# Altium integrated library Linear Technology Power Management Battery Management.IntLib: 626 symbols (part 19 of 56)
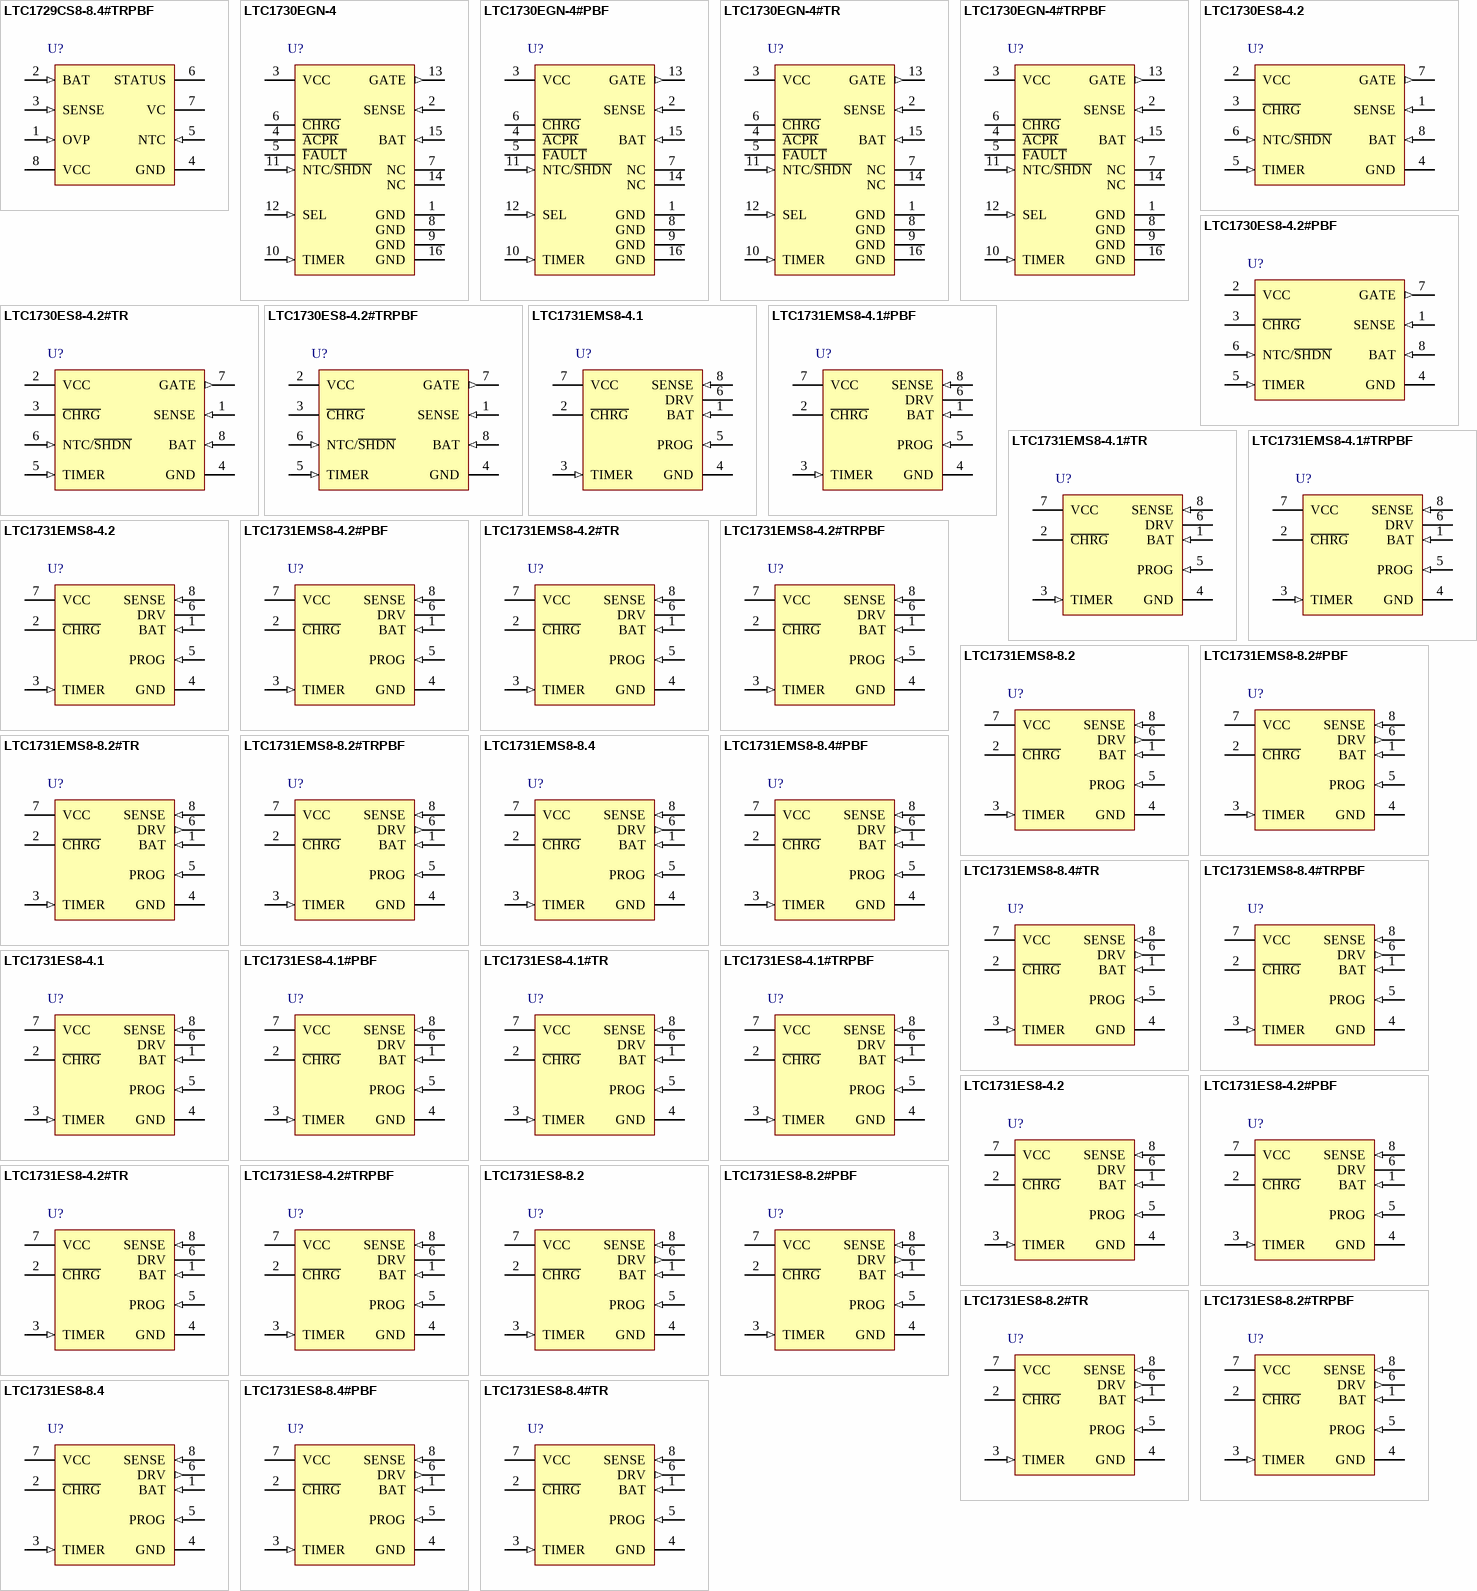
[diagram p40: symbols LTC1729CS8-8.4#TRPBF to LTC1731ES8-8.4#TR]

## LTC1731EMS8-4.2
designator U?
Linear Charger with AC Adapter Detection, 4.5 to 12 V Vin, 8-pin SOP (MS8-8), -40 to 85 degC; Manufacturer: Linear Technology; PartNumber: LTC1731EMS8-4.2; Battery Chemistry: Li-Ion, Li-Polymer; Charge Termination: On-board timer; Float Voltage: 4.2 V; Number of Cells: 1; Vin Max(V): 12; Vin Min(V): 4.5; PackageVersion: Rev. G, 03/2012; PackageReference: MS8-8; PackageDescription: 8-Pin Plastic MSOP, Body 3 x 3 mm, Pitch 0.65 mm; Supplier 1: Digi-Key; Supplier Part Number 1: LTC1731EMS8-4.2-ND; RoHS: FALSE; Type of Charger: Linear; Mounting Technology: Surface Mount; ComponentLink1Description: Manufacturer URL; ComponentLink1URL: http://www.linear.com/; ComponentLink2Description: Datasheet; ComponentLink2URL: http://cds.linear.com/docs/en/datasheet/1731f.pdf; ComponentLink3Description: Package Specification; ComponentLink3URL: http://cds.linear.com/docs/en/packaging/05081660_G_MS8.pdf
footprint LT-MS8-8_N (SOP, 8-Leads, Body 3.1x3.1mm, Pitch 0.65mm, IPC Medium Density)
footprint LT-MS8-8_L (SOP, 8-Leads, Body 3.1x3.1mm, Pitch 0.65mm, IPC High Density)
footprint LT-MS8-8_M (SOP, 8-Leads, Body 3.1x3.1mm, Pitch 0.65mm, IPC Low Density)
pins: 1 BAT (in) "Battery Sense Input. A bypass capacitor of at least 10uF is required to keep the loop stable when the battery is not connected. A precision internal resistor divider sets the final float potential on this pin. The resistor (See Datasheet)", 2 ~{CHRG} (hiz) "Open-Drain Charge Status Output. When the battery is being charged, the C\H\R\G\ pin is pulled low by an internal N-channel MOSFET. When the charge current drops to 10% of the full-scale current for at least 0.32 seconds, (See Datasheet)", 3 TIMER (in) "Timer Capacitor and Constant-Voltage Mode Disable Input Pin. The timer period is set by placing a capacitor, CTIMER, to GND. The timer period is tTIMER =(CTIMER x 3 hours)/(0.1uF). When the TIMER pin is connected to VCC, the (See Datasheet)", 4 GND (power) "Ground Connection", 5 PROG (in) "Charge Current Program and Shutdown Input Pin. The charge current is programmed by connecting a resistor, RPROG to ground. The charge current is IBAT = (VPROG x 800ohm)/(RPROG x RSENSE). The IC can be forced into shutdown by (See Datasheet)", 6 DRV (hiz) "Drive Output Pin for the P-Channel MOSFET or PNP Transistor. The impedance is high at this pin, therefore, a high beta PNP pass transistor should be used. The DRV pin is internally clamped to 6.5V below VCC.", 7 VCC (power) "Positive Input Supply Voltage. When VBAT is within 54mV of VCC, the LTC1731 is forced into sleep mode, dropping ICC to 7uA. VCC ranges from 4.5V to 12V. Bypass this pin with a 1uF capacitor.", 8 SENSE (in) "Current Sense Input. A sense resistor, RSENSE, must be connected from VCC to the SENSE pin. This resistor is chosen using the following equation: RSENSE = (VPROG x 800ohm)/(RPROG x IBAT)"

## LTC1731EMS8-4.2#PBF
designator U?
Linear Charger with AC Adapter Detection, 4.5 to 12 V Vin, 8-pin SOP (MS8-8), -40 to 85 degC, Pb-Free; Manufacturer: Linear Technology; PartNumber: LTC1731EMS8-4.2#PBF; Battery Chemistry: Li-Ion, Li-Polymer; Charge Termination: On-board timer; Float Voltage: 4.2 V; Number of Cells: 1; Vin Max(V): 12; Vin Min(V): 4.5; PackageVersion: Rev. G, 03/2012; PackageReference: MS8-8; PackageDescription: 8-Pin Plastic MSOP, Body 3 x 3 mm, Pitch 0.65 mm; Supplier 1: Digi-Key; Supplier Part Number 1: LTC1731EMS8-4.2#PBF-ND; Supplier 2: Farnell; Supplier Part Number 2: 1648011; RoHS: TRUE; Type of Charger: Linear; Mounting Technology: Surface Mount; ComponentLink1Description: Manufacturer URL; ComponentLink1URL: http://www.linear.com/; ComponentLink2Description: Datasheet; ComponentLink2URL: http://cds.linear.com/docs/en/datasheet/1731f.pdf; ComponentLink3Description: Package Specification; ComponentLink3URL: http://cds.linear.com/docs/en/packaging/05081660_G_MS8.pdf
footprint LT-MS8-8_N (SOP, 8-Leads, Body 3.1x3.1mm, Pitch 0.65mm, IPC Medium Density)
footprint LT-MS8-8_L (SOP, 8-Leads, Body 3.1x3.1mm, Pitch 0.65mm, IPC High Density)
footprint LT-MS8-8_M (SOP, 8-Leads, Body 3.1x3.1mm, Pitch 0.65mm, IPC Low Density)
pins: 1 BAT (in) "Battery Sense Input. A bypass capacitor of at least 10uF is required to keep the loop stable when the battery is not connected. A precision internal resistor divider sets the final float potential on this pin. The resistor (See Datasheet)", 2 ~{CHRG} (hiz) "Open-Drain Charge Status Output. When the battery is being charged, the C\H\R\G\ pin is pulled low by an internal N-channel MOSFET. When the charge current drops to 10% of the full-scale current for at least 0.32 seconds, (See Datasheet)", 3 TIMER (in) "Timer Capacitor and Constant-Voltage Mode Disable Input Pin. The timer period is set by placing a capacitor, CTIMER, to GND. The timer period is tTIMER =(CTIMER x 3 hours)/(0.1uF). When the TIMER pin is connected to VCC, the (See Datasheet)", 4 GND (power) "Ground Connection", 5 PROG (in) "Charge Current Program and Shutdown Input Pin. The charge current is programmed by connecting a resistor, RPROG to ground. The charge current is IBAT = (VPROG x 800ohm)/(RPROG x RSENSE). The IC can be forced into shutdown by (See Datasheet)", 6 DRV (hiz) "Drive Output Pin for the P-Channel MOSFET or PNP Transistor. The impedance is high at this pin, therefore, a high beta PNP pass transistor should be used. The DRV pin is internally clamped to 6.5V below VCC.", 7 VCC (power) "Positive Input Supply Voltage. When VBAT is within 54mV of VCC, the LTC1731 is forced into sleep mode, dropping ICC to 7uA. VCC ranges from 4.5V to 12V. Bypass this pin with a 1uF capacitor.", 8 SENSE (in) "Current Sense Input. A sense resistor, RSENSE, must be connected from VCC to the SENSE pin. This resistor is chosen using the following equation: RSENSE = (VPROG x 800ohm)/(RPROG x IBAT)"

## LTC1731EMS8-4.2#TR
designator U?
Linear Charger with AC Adapter Detection, 4.5 to 12 V Vin, 8-pin SOP (MS8-8), -40 to 85 degC, Tape and Reel; Manufacturer: Linear Technology; PartNumber: LTC1731EMS8-4.2#TR; Battery Chemistry: Li-Ion, Li-Polymer; Charge Termination: On-board timer; Float Voltage: 4.2 V; Number of Cells: 1; Vin Max(V): 12; Vin Min(V): 4.5; PackageVersion: Rev. G, 03/2012; PackageReference: MS8-8; PackageDescription: 8-Pin Plastic MSOP, Body 3 x 3 mm, Pitch 0.65 mm; Supplier 1: Digi-Key; Supplier Part Number 1: LTC1731EMS8-4.2TR-ND; Packing: Tape and Reel; RoHS: FALSE; Type of Charger: Linear; Mounting Technology: Surface Mount; ComponentLink1Description: Manufacturer URL; ComponentLink1URL: http://www.linear.com/; ComponentLink2Description: Datasheet; ComponentLink2URL: http://cds.linear.com/docs/en/datasheet/1731f.pdf; ComponentLink3Description: Package Specification; ComponentLink3URL: http://cds.linear.com/docs/en/packaging/05081660_G_MS8.pdf
footprint LT-MS8-8_N (SOP, 8-Leads, Body 3.1x3.1mm, Pitch 0.65mm, IPC Medium Density)
footprint LT-MS8-8_L (SOP, 8-Leads, Body 3.1x3.1mm, Pitch 0.65mm, IPC High Density)
footprint LT-MS8-8_M (SOP, 8-Leads, Body 3.1x3.1mm, Pitch 0.65mm, IPC Low Density)
pins: 1 BAT (in) "Battery Sense Input. A bypass capacitor of at least 10uF is required to keep the loop stable when the battery is not connected. A precision internal resistor divider sets the final float potential on this pin. The resistor (See Datasheet)", 2 ~{CHRG} (hiz) "Open-Drain Charge Status Output. When the battery is being charged, the C\H\R\G\ pin is pulled low by an internal N-channel MOSFET. When the charge current drops to 10% of the full-scale current for at least 0.32 seconds, (See Datasheet)", 3 TIMER (in) "Timer Capacitor and Constant-Voltage Mode Disable Input Pin. The timer period is set by placing a capacitor, CTIMER, to GND. The timer period is tTIMER =(CTIMER x 3 hours)/(0.1uF). When the TIMER pin is connected to VCC, the (See Datasheet)", 4 GND (power) "Ground Connection", 5 PROG (in) "Charge Current Program and Shutdown Input Pin. The charge current is programmed by connecting a resistor, RPROG to ground. The charge current is IBAT = (VPROG x 800ohm)/(RPROG x RSENSE). The IC can be forced into shutdown by (See Datasheet)", 6 DRV (hiz) "Drive Output Pin for the P-Channel MOSFET or PNP Transistor. The impedance is high at this pin, therefore, a high beta PNP pass transistor should be used. The DRV pin is internally clamped to 6.5V below VCC.", 7 VCC (power) "Positive Input Supply Voltage. When VBAT is within 54mV of VCC, the LTC1731 is forced into sleep mode, dropping ICC to 7uA. VCC ranges from 4.5V to 12V. Bypass this pin with a 1uF capacitor.", 8 SENSE (in) "Current Sense Input. A sense resistor, RSENSE, must be connected from VCC to the SENSE pin. This resistor is chosen using the following equation: RSENSE = (VPROG x 800ohm)/(RPROG x IBAT)"

## LTC1731EMS8-4.2#TRPBF
designator U?
Linear Charger with AC Adapter Detection, 4.5 to 12 V Vin, 8-pin SOP (MS8-8), -40 to 85 degC, Pb-Free, Tape and Reel; Manufacturer: Linear Technology; PartNumber: LTC1731EMS8-4.2#TRPBF; Battery Chemistry: Li-Ion, Li-Polymer; Charge Termination: On-board timer; Float Voltage: 4.2 V; Number of Cells: 1; Vin Max(V): 12; Vin Min(V): 4.5; PackageVersion: Rev. G, 03/2012; PackageReference: MS8-8; PackageDescription: 8-Pin Plastic MSOP, Body 3 x 3 mm, Pitch 0.65 mm; Supplier 1: Digi-Key; Supplier Part Number 1: LTC1731EMS8-4.2#TRPBF-ND; Packing: Tape and Reel; RoHS: TRUE; Type of Charger: Linear; Mounting Technology: Surface Mount; ComponentLink1Description: Manufacturer URL; ComponentLink1URL: http://www.linear.com/; ComponentLink2Description: Datasheet; ComponentLink2URL: http://cds.linear.com/docs/en/datasheet/1731f.pdf; ComponentLink3Description: Package Specification; ComponentLink3URL: http://cds.linear.com/docs/en/packaging/05081660_G_MS8.pdf
footprint LT-MS8-8_N (SOP, 8-Leads, Body 3.1x3.1mm, Pitch 0.65mm, IPC Medium Density)
footprint LT-MS8-8_L (SOP, 8-Leads, Body 3.1x3.1mm, Pitch 0.65mm, IPC High Density)
footprint LT-MS8-8_M (SOP, 8-Leads, Body 3.1x3.1mm, Pitch 0.65mm, IPC Low Density)
pins: 1 BAT (in) "Battery Sense Input. A bypass capacitor of at least 10uF is required to keep the loop stable when the battery is not connected. A precision internal resistor divider sets the final float potential on this pin. The resistor (See Datasheet)", 2 ~{CHRG} (hiz) "Open-Drain Charge Status Output. When the battery is being charged, the C\H\R\G\ pin is pulled low by an internal N-channel MOSFET. When the charge current drops to 10% of the full-scale current for at least 0.32 seconds, (See Datasheet)", 3 TIMER (in) "Timer Capacitor and Constant-Voltage Mode Disable Input Pin. The timer period is set by placing a capacitor, CTIMER, to GND. The timer period is tTIMER =(CTIMER x 3 hours)/(0.1uF). When the TIMER pin is connected to VCC, the (See Datasheet)", 4 GND (power) "Ground Connection", 5 PROG (in) "Charge Current Program and Shutdown Input Pin. The charge current is programmed by connecting a resistor, RPROG to ground. The charge current is IBAT = (VPROG x 800ohm)/(RPROG x RSENSE). The IC can be forced into shutdown by (See Datasheet)", 6 DRV (hiz) "Drive Output Pin for the P-Channel MOSFET or PNP Transistor. The impedance is high at this pin, therefore, a high beta PNP pass transistor should be used. The DRV pin is internally clamped to 6.5V below VCC.", 7 VCC (power) "Positive Input Supply Voltage. When VBAT is within 54mV of VCC, the LTC1731 is forced into sleep mode, dropping ICC to 7uA. VCC ranges from 4.5V to 12V. Bypass this pin with a 1uF capacitor.", 8 SENSE (in) "Current Sense Input. A sense resistor, RSENSE, must be connected from VCC to the SENSE pin. This resistor is chosen using the following equation: RSENSE = (VPROG x 800ohm)/(RPROG x IBAT)"

## LTC1731EMS8-8.2
designator U?
Linear Charger with AC Adapter Detection, 4.5 to 12 V Vin, 8-pin SOP (MS8-8), -40 to 85 degC; Manufacturer: Linear Technology; PartNumber: LTC1731EMS8-8.2; Battery Chemistry: Li-Ion, Li-Polymer; Charge Termination: On-board timer; Float Voltage: 8.2 V; Number of Cells: 2; Vin Max(V): 12; Vin Min(V): 4.5; PackageVersion: Rev. G, 03/2012; PackageReference: MS8-8; PackageDescription: 8-Pin Plastic MSOP, Body 3 x 3 mm, Pitch 0.65 mm; RoHS: FALSE; Type of Charger: Linear; Mounting Technology: Surface Mount; ComponentLink1Description: Manufacturer URL; ComponentLink1URL: http://www.linear.com/; ComponentLink2Description: Datasheet; ComponentLink2URL: http://cds.linear.com/docs/en/datasheet/17318fs.pdf; ComponentLink3Description: Package Specification; ComponentLink3URL: http://cds.linear.com/docs/en/packaging/05081660_G_MS8.pdf
footprint LT-MS8-8_N (SOP, 8-Leads, Body 3.1x3.1mm, Pitch 0.65mm, IPC Medium Density)
footprint LT-MS8-8_L (SOP, 8-Leads, Body 3.1x3.1mm, Pitch 0.65mm, IPC High Density)
footprint LT-MS8-8_M (SOP, 8-Leads, Body 3.1x3.1mm, Pitch 0.65mm, IPC Low Density)
pins: 1 BAT (in) "Battery Sense Input. A bypass capacitor of at least 10uF is required to keep the loop stable when the battery is not connected. A precision internal resistor divider sets the final float potential on this pin. The resistor (See Datasheet)", 2 ~{CHRG} (hiz) "Open-Drain Charge Status Output. When the battery is being charged, the C\H\R\G\ pin is pulled low by an internal N-channel MOSFET. When the charge current drops to 10% of the full-scale current for at least 0.32 seconds, (See Datasheet)", 3 TIMER (in) "Timer Capacitor and Constant-Voltage Mode Disable Input Pin. A capacitor CTIMER connected from this pin to ground sets a 30 hours/uF time period for charge termination. When the TIMER pin is connected to VCC, the (See Datasheet)", 4 GND (power) "Ground", 5 PROG (in) "Charge Current Program and Shutdown Input Pin. The charge current is programmed by connecting a resistor, RPROG to ground. The charge current is IBAT = (VPROG x 800ohm)/(RPROG x RSENSE). The IC can be forced into shutdown by (See Datasheet)", 6 DRV (out) "Drive Output Pin for the P-Channel MOSFET or PNP Transistor. If a PNP transistor is used, it must have high gain (see Applications Information section). The DRV pin is internally clamped to 6.5V below VCC.", 7 VCC (power) "Input Supply Voltage. VCC ranges from 8.8V to 12V when charging. If VCC drops below VBAT + 54mV, for example when the input supply is disconnected, then the IC enters sleep mode with ICC < 30uA. Bypass this pin with a 1uF (See Datasheet)", 8 SENSE (in) "Current Sense Input. Connect this pin to the sense resistor. Choose the resistor value using the following equation:RSENSE = (VPROG x 800ohm)/(RPROG x IBAT)"

## LTC1731EMS8-8.2#PBF
designator U?
Linear Charger with AC Adapter Detection, 4.5 to 12 V Vin, 8-pin SOP (MS8-8), -40 to 85 degC, Pb-Free; Manufacturer: Linear Technology; PartNumber: LTC1731EMS8-8.2#PBF; Battery Chemistry: Li-Ion, Li-Polymer; Charge Termination: On-board timer; Float Voltage: 8.2 V; Number of Cells: 2; Vin Max(V): 12; Vin Min(V): 4.5; PackageVersion: Rev. G, 03/2012; PackageReference: MS8-8; PackageDescription: 8-Pin Plastic MSOP, Body 3 x 3 mm, Pitch 0.65 mm; Supplier 1: Digi-Key; Supplier Part Number 1: LTC1731EMS8-8.2#PBF-ND; Supplier 2: Farnell; Supplier Part Number 2: 1648012; RoHS: TRUE; Type of Charger: Linear; Mounting Technology: Surface Mount; ComponentLink1Description: Manufacturer URL; ComponentLink1URL: http://www.linear.com/; ComponentLink2Description: Datasheet; ComponentLink2URL: http://cds.linear.com/docs/en/datasheet/17318fs.pdf; ComponentLink3Description: Package Specification; ComponentLink3URL: http://cds.linear.com/docs/en/packaging/05081660_G_MS8.pdf
footprint LT-MS8-8_N (SOP, 8-Leads, Body 3.1x3.1mm, Pitch 0.65mm, IPC Medium Density)
footprint LT-MS8-8_L (SOP, 8-Leads, Body 3.1x3.1mm, Pitch 0.65mm, IPC High Density)
footprint LT-MS8-8_M (SOP, 8-Leads, Body 3.1x3.1mm, Pitch 0.65mm, IPC Low Density)
pins: 1 BAT (in) "Battery Sense Input. A bypass capacitor of at least 10uF is required to keep the loop stable when the battery is not connected. A precision internal resistor divider sets the final float potential on this pin. The resistor (See Datasheet)", 2 ~{CHRG} (hiz) "Open-Drain Charge Status Output. When the battery is being charged, the C\H\R\G\ pin is pulled low by an internal N-channel MOSFET. When the charge current drops to 10% of the full-scale current for at least 0.32 seconds, (See Datasheet)", 3 TIMER (in) "Timer Capacitor and Constant-Voltage Mode Disable Input Pin. A capacitor CTIMER connected from this pin to ground sets a 30 hours/uF time period for charge termination. When the TIMER pin is connected to VCC, the (See Datasheet)", 4 GND (power) "Ground", 5 PROG (in) "Charge Current Program and Shutdown Input Pin. The charge current is programmed by connecting a resistor, RPROG to ground. The charge current is IBAT = (VPROG x 800ohm)/(RPROG x RSENSE). The IC can be forced into shutdown by (See Datasheet)", 6 DRV (out) "Drive Output Pin for the P-Channel MOSFET or PNP Transistor. If a PNP transistor is used, it must have high gain (see Applications Information section). The DRV pin is internally clamped to 6.5V below VCC.", 7 VCC (power) "Input Supply Voltage. VCC ranges from 8.8V to 12V when charging. If VCC drops below VBAT + 54mV, for example when the input supply is disconnected, then the IC enters sleep mode with ICC < 30uA. Bypass this pin with a 1uF (See Datasheet)", 8 SENSE (in) "Current Sense Input. Connect this pin to the sense resistor. Choose the resistor value using the following equation:RSENSE = (VPROG x 800ohm)/(RPROG x IBAT)"

## LTC1731EMS8-8.2#TR
designator U?
Linear Charger with AC Adapter Detection, 4.5 to 12 V Vin, 8-pin SOP (MS8-8), -40 to 85 degC, Tape and Reel; Manufacturer: Linear Technology; PartNumber: LTC1731EMS8-8.2#TR; Battery Chemistry: Li-Ion, Li-Polymer; Charge Termination: On-board timer; Float Voltage: 8.2 V; Number of Cells: 2; Vin Max(V): 12; Vin Min(V): 4.5; PackageVersion: Rev. G, 03/2012; PackageReference: MS8-8; PackageDescription: 8-Pin Plastic MSOP, Body 3 x 3 mm, Pitch 0.65 mm; Supplier 1: Digi-Key; Supplier Part Number 1: LTC1731EMS8-8.2TR-ND; Packing: Tape and Reel; RoHS: FALSE; Type of Charger: Linear; Mounting Technology: Surface Mount; ComponentLink1Description: Manufacturer URL; ComponentLink1URL: http://www.linear.com/; ComponentLink2Description: Datasheet; ComponentLink2URL: http://cds.linear.com/docs/en/datasheet/17318fs.pdf; ComponentLink3Description: Package Specification; ComponentLink3URL: http://cds.linear.com/docs/en/packaging/05081660_G_MS8.pdf
footprint LT-MS8-8_N (SOP, 8-Leads, Body 3.1x3.1mm, Pitch 0.65mm, IPC Medium Density)
footprint LT-MS8-8_L (SOP, 8-Leads, Body 3.1x3.1mm, Pitch 0.65mm, IPC High Density)
footprint LT-MS8-8_M (SOP, 8-Leads, Body 3.1x3.1mm, Pitch 0.65mm, IPC Low Density)
pins: 1 BAT (in) "Battery Sense Input. A bypass capacitor of at least 10uF is required to keep the loop stable when the battery is not connected. A precision internal resistor divider sets the final float potential on this pin. The resistor (See Datasheet)", 2 ~{CHRG} (hiz) "Open-Drain Charge Status Output. When the battery is being charged, the C\H\R\G\ pin is pulled low by an internal N-channel MOSFET. When the charge current drops to 10% of the full-scale current for at least 0.32 seconds, (See Datasheet)", 3 TIMER (in) "Timer Capacitor and Constant-Voltage Mode Disable Input Pin. A capacitor CTIMER connected from this pin to ground sets a 30 hours/uF time period for charge termination. When the TIMER pin is connected to VCC, the (See Datasheet)", 4 GND (power) "Ground", 5 PROG (in) "Charge Current Program and Shutdown Input Pin. The charge current is programmed by connecting a resistor, RPROG to ground. The charge current is IBAT = (VPROG x 800ohm)/(RPROG x RSENSE). The IC can be forced into shutdown by (See Datasheet)", 6 DRV (out) "Drive Output Pin for the P-Channel MOSFET or PNP Transistor. If a PNP transistor is used, it must have high gain (see Applications Information section). The DRV pin is internally clamped to 6.5V below VCC.", 7 VCC (power) "Input Supply Voltage. VCC ranges from 8.8V to 12V when charging. If VCC drops below VBAT + 54mV, for example when the input supply is disconnected, then the IC enters sleep mode with ICC < 30uA. Bypass this pin with a 1uF (See Datasheet)", 8 SENSE (in) "Current Sense Input. Connect this pin to the sense resistor. Choose the resistor value using the following equation:RSENSE = (VPROG x 800ohm)/(RPROG x IBAT)"

## LTC1731EMS8-8.2#TRPBF
designator U?
Linear Charger with AC Adapter Detection, 4.5 to 12 V Vin, 8-pin SOP (MS8-8), -40 to 85 degC, Pb-Free, Tape and Reel; Manufacturer: Linear Technology; PartNumber: LTC1731EMS8-8.2#TRPBF; Battery Chemistry: Li-Ion, Li-Polymer; Charge Termination: On-board timer; Float Voltage: 8.2 V; Number of Cells: 2; Vin Max(V): 12; Vin Min(V): 4.5; PackageVersion: Rev. G, 03/2012; PackageReference: MS8-8; PackageDescription: 8-Pin Plastic MSOP, Body 3 x 3 mm, Pitch 0.65 mm; Supplier 1: Digi-Key; Supplier Part Number 1: LTC1731EMS8-8.2#TRPBF-ND; Packing: Tape and Reel; RoHS: TRUE; Type of Charger: Linear; Mounting Technology: Surface Mount; ComponentLink1Description: Manufacturer URL; ComponentLink1URL: http://www.linear.com/; ComponentLink2Description: Datasheet; ComponentLink2URL: http://cds.linear.com/docs/en/datasheet/17318fs.pdf; ComponentLink3Description: Package Specification; ComponentLink3URL: http://cds.linear.com/docs/en/packaging/05081660_G_MS8.pdf
footprint LT-MS8-8_N (SOP, 8-Leads, Body 3.1x3.1mm, Pitch 0.65mm, IPC Medium Density)
footprint LT-MS8-8_L (SOP, 8-Leads, Body 3.1x3.1mm, Pitch 0.65mm, IPC High Density)
footprint LT-MS8-8_M (SOP, 8-Leads, Body 3.1x3.1mm, Pitch 0.65mm, IPC Low Density)
pins: 1 BAT (in) "Battery Sense Input. A bypass capacitor of at least 10uF is required to keep the loop stable when the battery is not connected. A precision internal resistor divider sets the final float potential on this pin. The resistor (See Datasheet)", 2 ~{CHRG} (hiz) "Open-Drain Charge Status Output. When the battery is being charged, the C\H\R\G\ pin is pulled low by an internal N-channel MOSFET. When the charge current drops to 10% of the full-scale current for at least 0.32 seconds, (See Datasheet)", 3 TIMER (in) "Timer Capacitor and Constant-Voltage Mode Disable Input Pin. A capacitor CTIMER connected from this pin to ground sets a 30 hours/uF time period for charge termination. When the TIMER pin is connected to VCC, the (See Datasheet)", 4 GND (power) "Ground", 5 PROG (in) "Charge Current Program and Shutdown Input Pin. The charge current is programmed by connecting a resistor, RPROG to ground. The charge current is IBAT = (VPROG x 800ohm)/(RPROG x RSENSE). The IC can be forced into shutdown by (See Datasheet)", 6 DRV (out) "Drive Output Pin for the P-Channel MOSFET or PNP Transistor. If a PNP transistor is used, it must have high gain (see Applications Information section). The DRV pin is internally clamped to 6.5V below VCC.", 7 VCC (power) "Input Supply Voltage. VCC ranges from 8.8V to 12V when charging. If VCC drops below VBAT + 54mV, for example when the input supply is disconnected, then the IC enters sleep mode with ICC < 30uA. Bypass this pin with a 1uF (See Datasheet)", 8 SENSE (in) "Current Sense Input. Connect this pin to the sense resistor. Choose the resistor value using the following equation:RSENSE = (VPROG x 800ohm)/(RPROG x IBAT)"

## LTC1731EMS8-8.4
designator U?
Linear Charger with AC Adapter Detection, 4.5 to 12 V Vin, 8-pin SOP (MS8-8), -40 to 85 degC; Manufacturer: Linear Technology; PartNumber: LTC1731EMS8-8.4; Battery Chemistry: Li-Ion, Li-Polymer; Charge Termination: On-board timer; Float Voltage: 8.4 V; Number of Cells: 2; Vin Max(V): 12; Vin Min(V): 4.5; PackageVersion: Rev. G, 03/2012; PackageReference: MS8-8; PackageDescription: 8-Pin Plastic MSOP, Body 3 x 3 mm, Pitch 0.65 mm; RoHS: FALSE; Type of Charger: Linear; Mounting Technology: Surface Mount; ComponentLink1Description: Manufacturer URL; ComponentLink1URL: http://www.linear.com/; ComponentLink2Description: Datasheet; ComponentLink2URL: http://cds.linear.com/docs/en/datasheet/17318fs.pdf; ComponentLink3Description: Package Specification; ComponentLink3URL: http://cds.linear.com/docs/en/packaging/05081660_G_MS8.pdf
footprint LT-MS8-8_N (SOP, 8-Leads, Body 3.1x3.1mm, Pitch 0.65mm, IPC Medium Density)
footprint LT-MS8-8_L (SOP, 8-Leads, Body 3.1x3.1mm, Pitch 0.65mm, IPC High Density)
footprint LT-MS8-8_M (SOP, 8-Leads, Body 3.1x3.1mm, Pitch 0.65mm, IPC Low Density)
pins: 1 BAT (in) "Battery Sense Input. A bypass capacitor of at least 10uF is required to keep the loop stable when the battery is not connected. A precision internal resistor divider sets the final float potential on this pin. The resistor (See Datasheet)", 2 ~{CHRG} (hiz) "Open-Drain Charge Status Output. When the battery is being charged, the C\H\R\G\ pin is pulled low by an internal N-channel MOSFET. When the charge current drops to 10% of the full-scale current for at least 0.32 seconds, (See Datasheet)", 3 TIMER (in) "Timer Capacitor and Constant-Voltage Mode Disable Input Pin. A capacitor CTIMER connected from this pin to ground sets a 30 hours/uF time period for charge termination. When the TIMER pin is connected to VCC, the (See Datasheet)", 4 GND (power) "Ground", 5 PROG (in) "Charge Current Program and Shutdown Input Pin. The charge current is programmed by connecting a resistor, RPROG to ground. The charge current is IBAT = (VPROG x 800ohm)/(RPROG x RSENSE). The IC can be forced into shutdown by (See Datasheet)", 6 DRV (out) "Drive Output Pin for the P-Channel MOSFET or PNP Transistor. If a PNP transistor is used, it must have high gain (see Applications Information section). The DRV pin is internally clamped to 6.5V below VCC.", 7 VCC (power) "Input Supply Voltage. VCC ranges from 8.8V to 12V when charging. If VCC drops below VBAT + 54mV, for example when the input supply is disconnected, then the IC enters sleep mode with ICC < 30uA. Bypass this pin with a 1uF (See Datasheet)", 8 SENSE (in) "Current Sense Input. Connect this pin to the sense resistor. Choose the resistor value using the following equation:RSENSE = (VPROG x 800ohm)/(RPROG x IBAT)"

## LTC1731EMS8-8.4#PBF
designator U?
Linear Charger with AC Adapter Detection, 4.5 to 12 V Vin, 8-pin SOP (MS8-8), -40 to 85 degC, Pb-Free; Manufacturer: Linear Technology; PartNumber: LTC1731EMS8-8.4#PBF; Battery Chemistry: Li-Ion, Li-Polymer; Charge Termination: On-board timer; Float Voltage: 8.4 V; Number of Cells: 2; Vin Max(V): 12; Vin Min(V): 4.5; PackageVersion: Rev. G, 03/2012; PackageReference: MS8-8; PackageDescription: 8-Pin Plastic MSOP, Body 3 x 3 mm, Pitch 0.65 mm; Supplier 1: Digi-Key; Supplier Part Number 1: LTC1731EMS8-8.4#PBF-ND; Supplier 2: Farnell; Supplier Part Number 2: 1648013; Supplier 3: Newark; Supplier Part Number 3: 58M0667; RoHS: TRUE; Type of Charger: Linear; Mounting Technology: Surface Mount; ComponentLink1Description: Manufacturer URL; ComponentLink1URL: http://www.linear.com/; ComponentLink2Description: Datasheet; ComponentLink2URL: http://cds.linear.com/docs/en/datasheet/17318fs.pdf; ComponentLink3Description: Package Specification; ComponentLink3URL: http://cds.linear.com/docs/en/packaging/05081660_G_MS8.pdf
footprint LT-MS8-8_N (SOP, 8-Leads, Body 3.1x3.1mm, Pitch 0.65mm, IPC Medium Density)
footprint LT-MS8-8_L (SOP, 8-Leads, Body 3.1x3.1mm, Pitch 0.65mm, IPC High Density)
footprint LT-MS8-8_M (SOP, 8-Leads, Body 3.1x3.1mm, Pitch 0.65mm, IPC Low Density)
pins: 1 BAT (in) "Battery Sense Input. A bypass capacitor of at least 10uF is required to keep the loop stable when the battery is not connected. A precision internal resistor divider sets the final float potential on this pin. The resistor (See Datasheet)", 2 ~{CHRG} (hiz) "Open-Drain Charge Status Output. When the battery is being charged, the C\H\R\G\ pin is pulled low by an internal N-channel MOSFET. When the charge current drops to 10% of the full-scale current for at least 0.32 seconds, (See Datasheet)", 3 TIMER (in) "Timer Capacitor and Constant-Voltage Mode Disable Input Pin. A capacitor CTIMER connected from this pin to ground sets a 30 hours/uF time period for charge termination. When the TIMER pin is connected to VCC, the (See Datasheet)", 4 GND (power) "Ground", 5 PROG (in) "Charge Current Program and Shutdown Input Pin. The charge current is programmed by connecting a resistor, RPROG to ground. The charge current is IBAT = (VPROG x 800ohm)/(RPROG x RSENSE). The IC can be forced into shutdown by (See Datasheet)", 6 DRV (out) "Drive Output Pin for the P-Channel MOSFET or PNP Transistor. If a PNP transistor is used, it must have high gain (see Applications Information section). The DRV pin is internally clamped to 6.5V below VCC.", 7 VCC (power) "Input Supply Voltage. VCC ranges from 8.8V to 12V when charging. If VCC drops below VBAT + 54mV, for example when the input supply is disconnected, then the IC enters sleep mode with ICC < 30uA. Bypass this pin with a 1uF (See Datasheet)", 8 SENSE (in) "Current Sense Input. Connect this pin to the sense resistor. Choose the resistor value using the following equation:RSENSE = (VPROG x 800ohm)/(RPROG x IBAT)"

## LTC1731EMS8-8.4#TR
designator U?
Linear Charger with AC Adapter Detection, 4.5 to 12 V Vin, 8-pin SOP (MS8-8), -40 to 85 degC, Tape and Reel; Manufacturer: Linear Technology; PartNumber: LTC1731EMS8-8.4#TR; Battery Chemistry: Li-Ion, Li-Polymer; Charge Termination: On-board timer; Float Voltage: 8.4 V; Number of Cells: 2; Vin Max(V): 12; Vin Min(V): 4.5; PackageVersion: Rev. G, 03/2012; PackageReference: MS8-8; PackageDescription: 8-Pin Plastic MSOP, Body 3 x 3 mm, Pitch 0.65 mm; Supplier 1: Digi-Key; Supplier Part Number 1: LTC1731EMS8-8.4TR-ND; Packing: Tape and Reel; RoHS: FALSE; Type of Charger: Linear; Mounting Technology: Surface Mount; ComponentLink1Description: Manufacturer URL; ComponentLink1URL: http://www.linear.com/; ComponentLink2Description: Datasheet; ComponentLink2URL: http://cds.linear.com/docs/en/datasheet/17318fs.pdf; ComponentLink3Description: Package Specification; ComponentLink3URL: http://cds.linear.com/docs/en/packaging/05081660_G_MS8.pdf
footprint LT-MS8-8_N (SOP, 8-Leads, Body 3.1x3.1mm, Pitch 0.65mm, IPC Medium Density)
footprint LT-MS8-8_L (SOP, 8-Leads, Body 3.1x3.1mm, Pitch 0.65mm, IPC High Density)
footprint LT-MS8-8_M (SOP, 8-Leads, Body 3.1x3.1mm, Pitch 0.65mm, IPC Low Density)
pins: 1 BAT (in) "Battery Sense Input. A bypass capacitor of at least 10uF is required to keep the loop stable when the battery is not connected. A precision internal resistor divider sets the final float potential on this pin. The resistor (See Datasheet)", 2 ~{CHRG} (hiz) "Open-Drain Charge Status Output. When the battery is being charged, the C\H\R\G\ pin is pulled low by an internal N-channel MOSFET. When the charge current drops to 10% of the full-scale current for at least 0.32 seconds, (See Datasheet)", 3 TIMER (in) "Timer Capacitor and Constant-Voltage Mode Disable Input Pin. A capacitor CTIMER connected from this pin to ground sets a 30 hours/uF time period for charge termination. When the TIMER pin is connected to VCC, the (See Datasheet)", 4 GND (power) "Ground", 5 PROG (in) "Charge Current Program and Shutdown Input Pin. The charge current is programmed by connecting a resistor, RPROG to ground. The charge current is IBAT = (VPROG x 800ohm)/(RPROG x RSENSE). The IC can be forced into shutdown by (See Datasheet)", 6 DRV (out) "Drive Output Pin for the P-Channel MOSFET or PNP Transistor. If a PNP transistor is used, it must have high gain (see Applications Information section). The DRV pin is internally clamped to 6.5V below VCC.", 7 VCC (power) "Input Supply Voltage. VCC ranges from 8.8V to 12V when charging. If VCC drops below VBAT + 54mV, for example when the input supply is disconnected, then the IC enters sleep mode with ICC < 30uA. Bypass this pin with a 1uF (See Datasheet)", 8 SENSE (in) "Current Sense Input. Connect this pin to the sense resistor. Choose the resistor value using the following equation:RSENSE = (VPROG x 800ohm)/(RPROG x IBAT)"

## LTC1731EMS8-8.4#TRPBF
designator U?
Linear Charger with AC Adapter Detection, 4.5 to 12 V Vin, 8-pin SOP (MS8-8), -40 to 85 degC, Pb-Free, Tape and Reel; Manufacturer: Linear Technology; PartNumber: LTC1731EMS8-8.4#TRPBF; Battery Chemistry: Li-Ion, Li-Polymer; Charge Termination: On-board timer; Float Voltage: 8.4 V; Number of Cells: 2; Vin Max(V): 12; Vin Min(V): 4.5; PackageVersion: Rev. G, 03/2012; PackageReference: MS8-8; PackageDescription: 8-Pin Plastic MSOP, Body 3 x 3 mm, Pitch 0.65 mm; Supplier 1: Digi-Key; Supplier Part Number 1: LTC1731EMS8-8.4#TRPBF-ND; Supplier 2: Newark; Supplier Part Number 2: 58M0669; Packing: Tape and Reel; RoHS: TRUE; Type of Charger: Linear; Mounting Technology: Surface Mount; ComponentLink1Description: Manufacturer URL; ComponentLink1URL: http://www.linear.com/; ComponentLink2Description: Datasheet; ComponentLink2URL: http://cds.linear.com/docs/en/datasheet/17318fs.pdf; ComponentLink3Description: Package Specification; ComponentLink3URL: http://cds.linear.com/docs/en/packaging/05081660_G_MS8.pdf
footprint LT-MS8-8_N (SOP, 8-Leads, Body 3.1x3.1mm, Pitch 0.65mm, IPC Medium Density)
footprint LT-MS8-8_L (SOP, 8-Leads, Body 3.1x3.1mm, Pitch 0.65mm, IPC High Density)
footprint LT-MS8-8_M (SOP, 8-Leads, Body 3.1x3.1mm, Pitch 0.65mm, IPC Low Density)
pins: 1 BAT (in) "Battery Sense Input. A bypass capacitor of at least 10uF is required to keep the loop stable when the battery is not connected. A precision internal resistor divider sets the final float potential on this pin. The resistor (See Datasheet)", 2 ~{CHRG} (hiz) "Open-Drain Charge Status Output. When the battery is being charged, the C\H\R\G\ pin is pulled low by an internal N-channel MOSFET. When the charge current drops to 10% of the full-scale current for at least 0.32 seconds, (See Datasheet)", 3 TIMER (in) "Timer Capacitor and Constant-Voltage Mode Disable Input Pin. A capacitor CTIMER connected from this pin to ground sets a 30 hours/uF time period for charge termination. When the TIMER pin is connected to VCC, the (See Datasheet)", 4 GND (power) "Ground", 5 PROG (in) "Charge Current Program and Shutdown Input Pin. The charge current is programmed by connecting a resistor, RPROG to ground. The charge current is IBAT = (VPROG x 800ohm)/(RPROG x RSENSE). The IC can be forced into shutdown by (See Datasheet)", 6 DRV (out) "Drive Output Pin for the P-Channel MOSFET or PNP Transistor. If a PNP transistor is used, it must have high gain (see Applications Information section). The DRV pin is internally clamped to 6.5V below VCC.", 7 VCC (power) "Input Supply Voltage. VCC ranges from 8.8V to 12V when charging. If VCC drops below VBAT + 54mV, for example when the input supply is disconnected, then the IC enters sleep mode with ICC < 30uA. Bypass this pin with a 1uF (See Datasheet)", 8 SENSE (in) "Current Sense Input. Connect this pin to the sense resistor. Choose the resistor value using the following equation:RSENSE = (VPROG x 800ohm)/(RPROG x IBAT)"

## LTC1731ES8-4.1
designator U?
Linear Charger with AC Adapter Detection, 4.5 to 12 V Vin, 8-pin SOIC (S8-8), -40 to 85 degC; Manufacturer: Linear Technology; PartNumber: LTC1731ES8-4.1; Battery Chemistry: Li-Ion, Li-Polymer; Charge Termination: On-board timer; Float Voltage: 4.1 V; Number of Cells: 1; Vin Max(V): 12; Vin Min(V): 4.5; PackageVersion: Rev. G, 03/2012; PackageReference: S8-8; PackageDescription: 8-Pin Plastic Small Outline (Narrow .150 Inch), Body 4.9 x 3.9 mm, Pitch 1.27 mm; Supplier 1: Digi-Key; Supplier Part Number 1: LTC1731ES8-4.1-ND; RoHS: FALSE; Type of Charger: Linear; Mounting Technology: Surface Mount; ComponentLink1Description: Manufacturer URL; ComponentLink1URL: http://www.linear.com/; ComponentLink2Description: Datasheet; ComponentLink2URL: http://cds.linear.com/docs/en/datasheet/1731f.pdf; ComponentLink3Description: Package Specification; ComponentLink3URL: http://cds.linear.com/docs/en/packaging/05081610_G_SO8.pdf
footprint LT-S8-8_N (SOIC, 8-Leads, Body 5x4mm, Pitch 1.27mm, IPC Medium Density)
footprint LT-S8-8_L (SOIC, 8-Leads, Body 5x4mm, Pitch 1.27mm, IPC High Density)
footprint LT-S8-8_M (SOIC, 8-Leads, Body 5x4mm, Pitch 1.27mm, IPC Low Density)
pins: 1 BAT (in) "Battery Sense Input. A bypass capacitor of at least 10uF is required to keep the loop stable when the battery is not connected. A precision internal resistor divider sets the final float potential on this pin. The resistor (See Datasheet)", 2 ~{CHRG} (hiz) "Open-Drain Charge Status Output. When the battery is being charged, the C\H\R\G\ pin is pulled low by an internal N-channel MOSFET. When the charge current drops to 10% of the full-scale current for at least 0.32 seconds, (See Datasheet)", 3 TIMER (in) "Timer Capacitor and Constant-Voltage Mode Disable Input Pin. The timer period is set by placing a capacitor, CTIMER, to GND. The timer period is tTIMER =(CTIMER x 3 hours)/(0.1uF). When the TIMER pin is connected to VCC, the (See Datasheet)", 4 GND (power) "Ground Connection", 5 PROG (in) "Charge Current Program and Shutdown Input Pin. The charge current is programmed by connecting a resistor, RPROG to ground. The charge current is IBAT = (VPROG x 800ohm)/(RPROG x RSENSE). The IC can be forced into shutdown by (See Datasheet)", 6 DRV (hiz) "Drive Output Pin for the P-Channel MOSFET or PNP Transistor. The impedance is high at this pin, therefore, a high beta PNP pass transistor should be used. The DRV pin is internally clamped to 6.5V below VCC.", 7 VCC (power) "Positive Input Supply Voltage. When VBAT is within 54mV of VCC, the LTC1731 is forced into sleep mode, dropping ICC to 7uA. VCC ranges from 4.5V to 12V. Bypass this pin with a 1uF capacitor.", 8 SENSE (in) "Current Sense Input. A sense resistor, RSENSE, must be connected from VCC to the SENSE pin. This resistor is chosen using the following equation: RSENSE = (VPROG x 800ohm)/(RPROG x IBAT)"

## LTC1731ES8-4.1#PBF
designator U?
Linear Charger with AC Adapter Detection, 4.5 to 12 V Vin, 8-pin SOIC (S8-8), -40 to 85 degC, Pb-Free; Manufacturer: Linear Technology; PartNumber: LTC1731ES8-4.1#PBF; Battery Chemistry: Li-Ion, Li-Polymer; Charge Termination: On-board timer; Float Voltage: 4.1 V; Number of Cells: 1; Vin Max(V): 12; Vin Min(V): 4.5; PackageVersion: Rev. G, 03/2012; PackageReference: S8-8; PackageDescription: 8-Pin Plastic Small Outline (Narrow .150 Inch), Body 4.9 x 3.9 mm, Pitch 1.27 mm; Supplier 1: Digi-Key; Supplier Part Number 1: LTC1731ES8-4.1#PBF-ND; Supplier 2: Newark; Supplier Part Number 2: 58M0671; RoHS: TRUE; Type of Charger: Linear; Mounting Technology: Surface Mount; ComponentLink1Description: Manufacturer URL; ComponentLink1URL: http://www.linear.com/; ComponentLink2Description: Datasheet; ComponentLink2URL: http://cds.linear.com/docs/en/datasheet/1731f.pdf; ComponentLink3Description: Package Specification; ComponentLink3URL: http://cds.linear.com/docs/en/packaging/05081610_G_SO8.pdf
footprint LT-S8-8_N (SOIC, 8-Leads, Body 5x4mm, Pitch 1.27mm, IPC Medium Density)
footprint LT-S8-8_L (SOIC, 8-Leads, Body 5x4mm, Pitch 1.27mm, IPC High Density)
footprint LT-S8-8_M (SOIC, 8-Leads, Body 5x4mm, Pitch 1.27mm, IPC Low Density)
pins: 1 BAT (in) "Battery Sense Input. A bypass capacitor of at least 10uF is required to keep the loop stable when the battery is not connected. A precision internal resistor divider sets the final float potential on this pin. The resistor (See Datasheet)", 2 ~{CHRG} (hiz) "Open-Drain Charge Status Output. When the battery is being charged, the C\H\R\G\ pin is pulled low by an internal N-channel MOSFET. When the charge current drops to 10% of the full-scale current for at least 0.32 seconds, (See Datasheet)", 3 TIMER (in) "Timer Capacitor and Constant-Voltage Mode Disable Input Pin. The timer period is set by placing a capacitor, CTIMER, to GND. The timer period is tTIMER =(CTIMER x 3 hours)/(0.1uF). When the TIMER pin is connected to VCC, the (See Datasheet)", 4 GND (power) "Ground Connection", 5 PROG (in) "Charge Current Program and Shutdown Input Pin. The charge current is programmed by connecting a resistor, RPROG to ground. The charge current is IBAT = (VPROG x 800ohm)/(RPROG x RSENSE). The IC can be forced into shutdown by (See Datasheet)", 6 DRV (hiz) "Drive Output Pin for the P-Channel MOSFET or PNP Transistor. The impedance is high at this pin, therefore, a high beta PNP pass transistor should be used. The DRV pin is internally clamped to 6.5V below VCC.", 7 VCC (power) "Positive Input Supply Voltage. When VBAT is within 54mV of VCC, the LTC1731 is forced into sleep mode, dropping ICC to 7uA. VCC ranges from 4.5V to 12V. Bypass this pin with a 1uF capacitor.", 8 SENSE (in) "Current Sense Input. A sense resistor, RSENSE, must be connected from VCC to the SENSE pin. This resistor is chosen using the following equation: RSENSE = (VPROG x 800ohm)/(RPROG x IBAT)"

## LTC1731ES8-4.1#TR
designator U?
Linear Charger with AC Adapter Detection, 4.5 to 12 V Vin, 8-pin SOIC (S8-8), -40 to 85 degC, Tape and Reel; Manufacturer: Linear Technology; PartNumber: LTC1731ES8-4.1#TR; Battery Chemistry: Li-Ion, Li-Polymer; Charge Termination: On-board timer; Float Voltage: 4.1 V; Number of Cells: 1; Vin Max(V): 12; Vin Min(V): 4.5; PackageVersion: Rev. G, 03/2012; PackageReference: S8-8; PackageDescription: 8-Pin Plastic Small Outline (Narrow .150 Inch), Body 4.9 x 3.9 mm, Pitch 1.27 mm; Supplier 1: Digi-Key; Supplier Part Number 1: LTC1731ES8-4.1#TR-ND; Packing: Tape and Reel; RoHS: FALSE; Type of Charger: Linear; Mounting Technology: Surface Mount; ComponentLink1Description: Manufacturer URL; ComponentLink1URL: http://www.linear.com/; ComponentLink2Description: Datasheet; ComponentLink2URL: http://cds.linear.com/docs/en/datasheet/1731f.pdf; ComponentLink3Description: Package Specification; ComponentLink3URL: http://cds.linear.com/docs/en/packaging/05081610_G_SO8.pdf
footprint LT-S8-8_N (SOIC, 8-Leads, Body 5x4mm, Pitch 1.27mm, IPC Medium Density)
footprint LT-S8-8_L (SOIC, 8-Leads, Body 5x4mm, Pitch 1.27mm, IPC High Density)
footprint LT-S8-8_M (SOIC, 8-Leads, Body 5x4mm, Pitch 1.27mm, IPC Low Density)
pins: 1 BAT (in) "Battery Sense Input. A bypass capacitor of at least 10uF is required to keep the loop stable when the battery is not connected. A precision internal resistor divider sets the final float potential on this pin. The resistor (See Datasheet)", 2 ~{CHRG} (hiz) "Open-Drain Charge Status Output. When the battery is being charged, the C\H\R\G\ pin is pulled low by an internal N-channel MOSFET. When the charge current drops to 10% of the full-scale current for at least 0.32 seconds, (See Datasheet)", 3 TIMER (in) "Timer Capacitor and Constant-Voltage Mode Disable Input Pin. The timer period is set by placing a capacitor, CTIMER, to GND. The timer period is tTIMER =(CTIMER x 3 hours)/(0.1uF). When the TIMER pin is connected to VCC, the (See Datasheet)", 4 GND (power) "Ground Connection", 5 PROG (in) "Charge Current Program and Shutdown Input Pin. The charge current is programmed by connecting a resistor, RPROG to ground. The charge current is IBAT = (VPROG x 800ohm)/(RPROG x RSENSE). The IC can be forced into shutdown by (See Datasheet)", 6 DRV (hiz) "Drive Output Pin for the P-Channel MOSFET or PNP Transistor. The impedance is high at this pin, therefore, a high beta PNP pass transistor should be used. The DRV pin is internally clamped to 6.5V below VCC.", 7 VCC (power) "Positive Input Supply Voltage. When VBAT is within 54mV of VCC, the LTC1731 is forced into sleep mode, dropping ICC to 7uA. VCC ranges from 4.5V to 12V. Bypass this pin with a 1uF capacitor.", 8 SENSE (in) "Current Sense Input. A sense resistor, RSENSE, must be connected from VCC to the SENSE pin. This resistor is chosen using the following equation: RSENSE = (VPROG x 800ohm)/(RPROG x IBAT)"

## LTC1731ES8-4.1#TRPBF
designator U?
Linear Charger with AC Adapter Detection, 4.5 to 12 V Vin, 8-pin SOIC (S8-8), -40 to 85 degC, Pb-Free, Tape and Reel; Manufacturer: Linear Technology; PartNumber: LTC1731ES8-4.1#TRPBF; Battery Chemistry: Li-Ion, Li-Polymer; Charge Termination: On-board timer; Float Voltage: 4.1 V; Number of Cells: 1; Vin Max(V): 12; Vin Min(V): 4.5; PackageVersion: Rev. G, 03/2012; PackageReference: S8-8; PackageDescription: 8-Pin Plastic Small Outline (Narrow .150 Inch), Body 4.9 x 3.9 mm, Pitch 1.27 mm; Supplier 1: Digi-Key; Supplier Part Number 1: LTC1731ES8-4.1#TRPBF-ND; Packing: Tape and Reel; RoHS: TRUE; Type of Charger: Linear; Mounting Technology: Surface Mount; ComponentLink1Description: Manufacturer URL; ComponentLink1URL: http://www.linear.com/; ComponentLink2Description: Datasheet; ComponentLink2URL: http://cds.linear.com/docs/en/datasheet/1731f.pdf; ComponentLink3Description: Package Specification; ComponentLink3URL: http://cds.linear.com/docs/en/packaging/05081610_G_SO8.pdf
footprint LT-S8-8_N (SOIC, 8-Leads, Body 5x4mm, Pitch 1.27mm, IPC Medium Density)
footprint LT-S8-8_L (SOIC, 8-Leads, Body 5x4mm, Pitch 1.27mm, IPC High Density)
footprint LT-S8-8_M (SOIC, 8-Leads, Body 5x4mm, Pitch 1.27mm, IPC Low Density)
pins: 1 BAT (in) "Battery Sense Input. A bypass capacitor of at least 10uF is required to keep the loop stable when the battery is not connected. A precision internal resistor divider sets the final float potential on this pin. The resistor (See Datasheet)", 2 ~{CHRG} (hiz) "Open-Drain Charge Status Output. When the battery is being charged, the C\H\R\G\ pin is pulled low by an internal N-channel MOSFET. When the charge current drops to 10% of the full-scale current for at least 0.32 seconds, (See Datasheet)", 3 TIMER (in) "Timer Capacitor and Constant-Voltage Mode Disable Input Pin. The timer period is set by placing a capacitor, CTIMER, to GND. The timer period is tTIMER =(CTIMER x 3 hours)/(0.1uF). When the TIMER pin is connected to VCC, the (See Datasheet)", 4 GND (power) "Ground Connection", 5 PROG (in) "Charge Current Program and Shutdown Input Pin. The charge current is programmed by connecting a resistor, RPROG to ground. The charge current is IBAT = (VPROG x 800ohm)/(RPROG x RSENSE). The IC can be forced into shutdown by (See Datasheet)", 6 DRV (hiz) "Drive Output Pin for the P-Channel MOSFET or PNP Transistor. The impedance is high at this pin, therefore, a high beta PNP pass transistor should be used. The DRV pin is internally clamped to 6.5V below VCC.", 7 VCC (power) "Positive Input Supply Voltage. When VBAT is within 54mV of VCC, the LTC1731 is forced into sleep mode, dropping ICC to 7uA. VCC ranges from 4.5V to 12V. Bypass this pin with a 1uF capacitor.", 8 SENSE (in) "Current Sense Input. A sense resistor, RSENSE, must be connected from VCC to the SENSE pin. This resistor is chosen using the following equation: RSENSE = (VPROG x 800ohm)/(RPROG x IBAT)"

## LTC1731ES8-4.2
designator U?
Linear Charger with AC Adapter Detection, 4.5 to 12 V Vin, 8-pin SOIC (S8-8), -40 to 85 degC; Manufacturer: Linear Technology; PartNumber: LTC1731ES8-4.2; Battery Chemistry: Li-Ion, Li-Polymer; Charge Termination: On-board timer; Float Voltage: 4.2 V; Number of Cells: 1; Vin Max(V): 12; Vin Min(V): 4.5; PackageVersion: Rev. G, 03/2012; PackageReference: S8-8; PackageDescription: 8-Pin Plastic Small Outline (Narrow .150 Inch), Body 4.9 x 3.9 mm, Pitch 1.27 mm; Supplier 1: Digi-Key; Supplier Part Number 1: LTC1731ES8-4.2-ND; RoHS: FALSE; Type of Charger: Linear; Mounting Technology: Surface Mount; ComponentLink1Description: Manufacturer URL; ComponentLink1URL: http://www.linear.com/; ComponentLink2Description: Datasheet; ComponentLink2URL: http://cds.linear.com/docs/en/datasheet/1731f.pdf; ComponentLink3Description: Package Specification; ComponentLink3URL: http://cds.linear.com/docs/en/packaging/05081610_G_SO8.pdf
footprint LT-S8-8_N (SOIC, 8-Leads, Body 5x4mm, Pitch 1.27mm, IPC Medium Density)
footprint LT-S8-8_L (SOIC, 8-Leads, Body 5x4mm, Pitch 1.27mm, IPC High Density)
footprint LT-S8-8_M (SOIC, 8-Leads, Body 5x4mm, Pitch 1.27mm, IPC Low Density)
pins: 1 BAT (in) "Battery Sense Input. A bypass capacitor of at least 10uF is required to keep the loop stable when the battery is not connected. A precision internal resistor divider sets the final float potential on this pin. The resistor (See Datasheet)", 2 ~{CHRG} (hiz) "Open-Drain Charge Status Output. When the battery is being charged, the C\H\R\G\ pin is pulled low by an internal N-channel MOSFET. When the charge current drops to 10% of the full-scale current for at least 0.32 seconds, (See Datasheet)", 3 TIMER (in) "Timer Capacitor and Constant-Voltage Mode Disable Input Pin. The timer period is set by placing a capacitor, CTIMER, to GND. The timer period is tTIMER =(CTIMER x 3 hours)/(0.1uF). When the TIMER pin is connected to VCC, the (See Datasheet)", 4 GND (power) "Ground Connection", 5 PROG (in) "Charge Current Program and Shutdown Input Pin. The charge current is programmed by connecting a resistor, RPROG to ground. The charge current is IBAT = (VPROG x 800ohm)/(RPROG x RSENSE). The IC can be forced into shutdown by (See Datasheet)", 6 DRV (hiz) "Drive Output Pin for the P-Channel MOSFET or PNP Transistor. The impedance is high at this pin, therefore, a high beta PNP pass transistor should be used. The DRV pin is internally clamped to 6.5V below VCC.", 7 VCC (power) "Positive Input Supply Voltage. When VBAT is within 54mV of VCC, the LTC1731 is forced into sleep mode, dropping ICC to 7uA. VCC ranges from 4.5V to 12V. Bypass this pin with a 1uF capacitor.", 8 SENSE (in) "Current Sense Input. A sense resistor, RSENSE, must be connected from VCC to the SENSE pin. This resistor is chosen using the following equation: RSENSE = (VPROG x 800ohm)/(RPROG x IBAT)"